# Altium footprint library Ind_TDK_ MLG1005SR22JT000_220nH.PcbLib: 1 footprints
Each footprint in its own frame and in the unit in brackets; x right, y up, seen from the top. Pads: shape width x height; smd on the part's side, far side on the other; paste and mask are expansions set on the pad; w line width, h text height; cw(c..) or ccw(c..) is an arc to the next point about the centre after c.
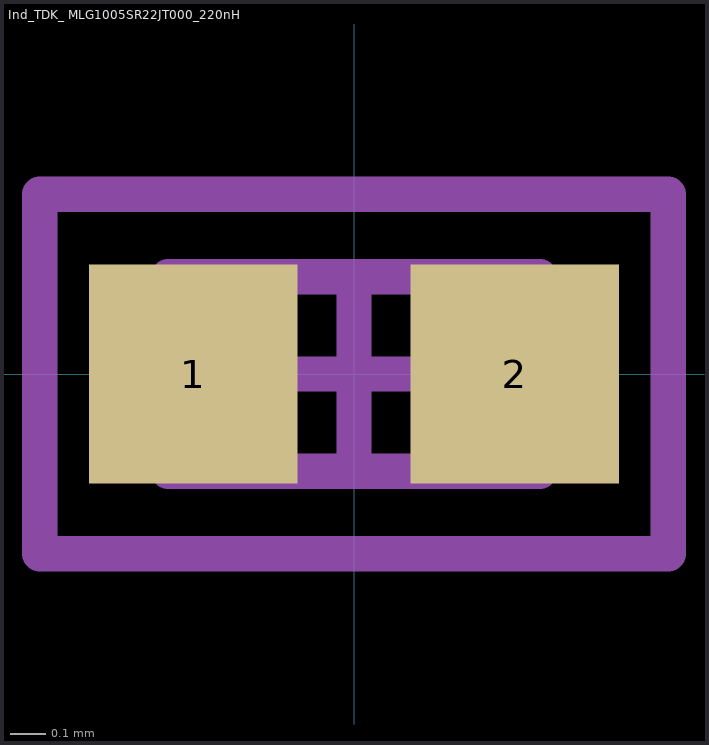
[diagram p0: the footprint, top view; thin cyan lines are the x and y axes]

## Ind_TDK_ MLG1005SR22JT000_220nH [mm]
height 0.55
pads (2):
  rect 0.59x0.62 smd: 1(-0.455,0) 2(0.455,0)
Mechanical 13:
  lines w0.1: -0.525,-0.275 0.525,-0.275 0.525,0.275 -0.525,0.275 -0.525,-0.275
Mechanical 15:
  lines w0.05: -0.9,-0.5 0.9,-0.5 0.9,0.5 -0.9,0.5 -0.9,-0.5
  lines w0.1: -0.275,0 0.275,0 ; 0,-0.275 0,0.275
Mechanical 29:
  lines w0.1: -0.889,-0.508 0.889,-0.508 0.889,0.508 -0.889,0.508 -0.889,-0.508
  text ".Designator" at -0.254,-0.033 h0.5
3D body "Chip2PinSM127P600-8N.step": height 0.55, standoff 0, extent -0.525,-0.275 0.525,0.275